# EAGLE library part IC-BAV70S (library nRF9160-DiscreteSemi)
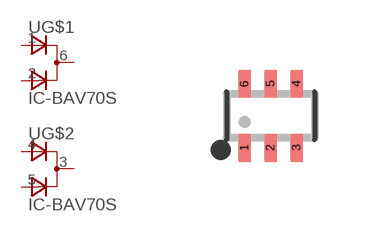
[diagram p0: symbol with the pads of SOT363; footprint SOT363]

Designator prefix U; gates G$1=DIODE2A G$2=DIODE2A

## IC-BAV70S (DESC: DIODE ARRAY GP 100V 250MA 6TSSOP; DIGIKEYPN: 1727-4310-1-ND; MF: Nexperia USA Inc.; MPN: BAV70S,115; PROD_ID: DIO-15412)  [SOT363]
1  G$1:A1  pas
2  G$1:A2  pas
3  G$2:C  pas
4  G$2:A1  pas
5  G$2:A2  pas
6  G$1:C  pas

## Footprint SOT363 (pad centres in mm)
smd 0.3 x 0.7: 1 -0.65,-0.8; 2 0,-0.8; 3 0.65,-0.8; 4 0.65,0.8; 5 0,0.8; 6 -0.65,0.8